# Altium schematic symbol library FDUK-10.Schlib: 1 symbol
Pins are listed as number, name and electrical type; pins without a type are passive.

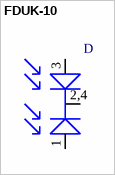
[diagram p0: symbol FDUK-10]

## FDUK-10
designator D
Double fotodiode; Published: 8-Jun-2000; Revision: July-2002: Re-released for DXP Platform.; Publisher: Altium Limited
footprint FDUK-10
pins: 1, 2,4 2, 3